# Altium footprint library SHDR16W77P254_2X8_2764X859X1004P.PcbLib: 1 footprints
Each footprint in its own frame and in the unit in brackets; x right, y up, seen from the top. Pads: shape width x height; smd on the part's side, far side on the other; paste and mask are expansions set on the pad; w line width, h text height; cw(c..) or ccw(c..) is an arc to the next point about the centre after c.
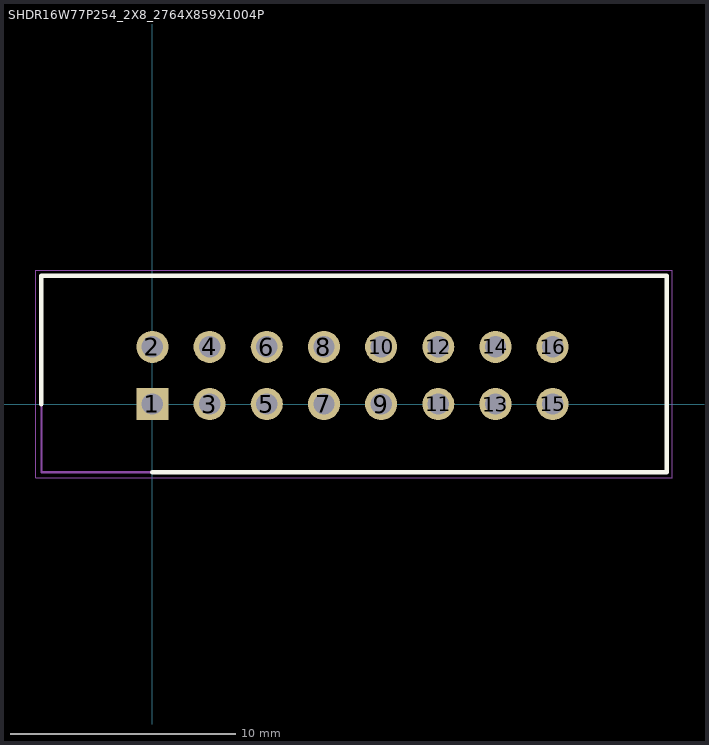
[diagram p0: the footprint, top view; thin cyan lines are the x and y axes]

## SHDR16W77P254_2X8_2764X859X1004P [mm]
pads (16):
  rect 1.425x1.425 / inner round 1.425 / far side rect 1.425x1.425 hole 0.95: 1(0,0)
  round 1.425 hole 0.95: 2(0,2.54) 3(2.54,0) 4(2.54,2.54) 5(5.08,0) 6(5.08,2.54) 7(7.62,0) 8(7.62,2.54) 9(10.16,0) 10(10.16,2.54) 11(12.7,0) 12(12.7,2.54) 13(15.24,0) 14(15.24,2.54) 15(17.78,0) 16(17.78,2.54)
Top Overlay:
  lines w0.2: -4.93,0 -4.93,5.695 22.84,5.695 22.84,-3.025 0,-3.025
Mechanical 15:
  lines w0.1: -4.93,-3.025 22.84,-3.025 22.84,5.695 -4.93,5.695 -4.93,-3.025
Mechanical 20:
  lines w0.05: -5.18,-3.275 23.09,-3.275 23.09,5.945 -5.18,5.945 -5.18,-3.275
3D body "N2516-6002-RB.stp": height 10.04, standoff -2.97, extent -4.93,-3.025 22.71,5.565